# Altium footprint library SAMTEC_EHF.PCBLIB: 3 footprints
Each footprint in its own frame and in the unit in brackets; x right, y up, seen from the top. Pads: shape width x height; smd on the part's side, far side on the other; paste and mask are expansions set on the pad; w line width, h text height; cw(c..) or ccw(c..) is an arc to the next point about the centre after c.
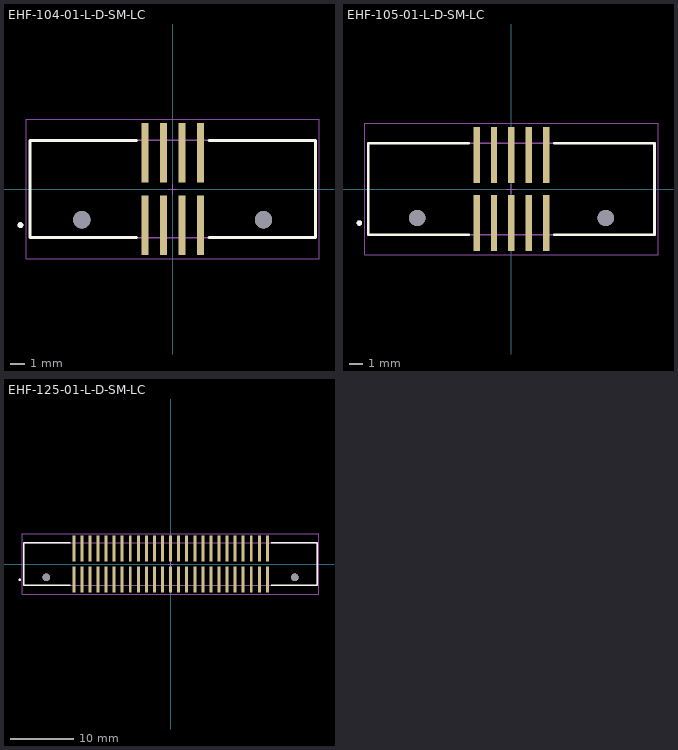
[diagram p0: the footprints below, top view; thin cyan lines are the x and y axes]

## EHF-104-01-L-D-SM-LC [mm]
pads (10):
  rect 0.47x4.09 smd: 01(-1.905,-2.475) 02(-1.905,2.475) 03(-0.635,-2.475) 04(-0.635,2.475) 05(0.635,-2.475) 06(0.635,2.475) 07(1.905,-2.475) 08(1.905,2.475)
  round 1.19 hole 1.19 unplated: ""(-6.225,-2.11) ""(6.225,-2.11)
Top Overlay:
  circle w0.2: c-10.43,-2.475 r0.1
  lines w0.2: -2.49,-3.335 -9.78,-3.335 -9.78,3.335 -2.49,3.335 ; 2.49,-3.335 9.78,-3.335 9.78,3.335 2.49,3.335
Top Assembly:
  circle w0.2: c-10.43,-2.475 r0.1
  lines w0.1: -9.78,-3.335 -9.78,3.335 ; -9.78,-3.335 9.78,-3.335 ; -9.78,-3.335 -9.78,3.335 ; -9.78,3.335 9.78,3.335 ; -9.78,3.335 9.78,3.335 ; 9.78,-3.335 9.78,3.335 ; 9.78,-3.335 9.78,3.335
Top Courtyard:
  lines w0.05: -10.03,-4.77 10.03,-4.77 10.03,4.77 -10.03,4.77 -10.03,-4.77
Top Designator:
  text ".Designator" at -0.4,-0.4 h0.76
Top Component Center:
  lines w0.05: -0.35,0 0.35,0 ; 0,-0.35 0,0.35
3D body "EHF-104-01-L-D-SM-LC.stp": height 11.3, standoff -1.52, extent -9.779,-3.759 9.779,3.759

## EHF-105-01-L-D-SM-LC [mm]
pads (12):
  rect 0.47x4.09 smd: 01(-2.54,-2.475) 02(-2.54,2.475) 03(-1.27,-2.475) 04(-1.27,2.475) 05(0,-2.475) 06(0,2.475) 07(1.27,-2.475) 08(1.27,2.475) 09(2.54,-2.475) 10(2.54,2.475)
  round 1.19 hole 1.19 unplated: ""(-6.86,-2.11) ""(6.86,-2.11)
Top Overlay:
  circle w0.2: c-11.065,-2.475 r0.1
  lines w0.2: -3.125,-3.335 -10.415,-3.335 -10.415,3.335 -3.125,3.335 ; 3.125,-3.335 10.415,-3.335 10.415,3.335 3.125,3.335
Top Assembly:
  circle w0.2: c-11.065,-2.475 r0.1
  lines w0.1: -10.415,-3.335 -10.415,3.335 ; -10.415,-3.335 10.415,-3.335 ; -10.415,-3.335 -10.415,3.335 ; -10.415,3.335 10.415,3.335 ; -10.415,3.335 10.415,3.335 ; 10.415,-3.335 10.415,3.335 ; 10.415,-3.335 10.415,3.335
Top Courtyard:
  lines w0.05: -10.665,-4.77 10.665,-4.77 10.665,4.77 -10.665,4.77 -10.665,-4.77
Top Designator:
  text ".Designator" at -0.4,-0.3 h0.76
Top Component Center:
  lines w0.05: -0.35,0 0.35,0 ; 0,-0.35 0,0.35
3D body "EHF-105-01-L-D-SM-LC.stp": height 11.3, standoff -1.52, extent -10.414,-3.759 10.414,3.759

## EHF-125-01-L-D-SM-LC [mm]
pads (52):
  rect 0.47x4.09 smd: 01(-15.24,-2.475) 02(-15.24,2.475) 03(-13.97,-2.475) 04(-13.97,2.475) 05(-12.7,-2.475) 06(-12.7,2.475) 07(-11.43,-2.475) 08(-11.43,2.475) 09(-10.16,-2.475) 10(-10.16,2.475) 11(-8.89,-2.475) 12(-8.89,2.475) 13(-7.62,-2.475) 14(-7.62,2.475) 15(-6.35,-2.475) 16(-6.35,2.475) 17(-5.08,-2.475) 18(-5.08,2.475) 19(-3.81,-2.475) 20(-3.81,2.475) 21(-2.54,-2.475) 22(-2.54,2.475) 23(-1.27,-2.475) 24(-1.27,2.475) 25(0,-2.475) 26(0,2.475) 27(1.27,-2.475) 28(1.27,2.475) 29(2.54,-2.475) 30(2.54,2.475) 31(3.81,-2.475) 32(3.81,2.475) 33(5.08,-2.475) 34(5.08,2.475) 35(6.35,-2.475) 36(6.35,2.475) 37(7.62,-2.475) 38(7.62,2.475) 39(8.89,-2.475) 40(8.89,2.475) 41(10.16,-2.475) 42(10.16,2.475) 43(11.43,-2.475) 44(11.43,2.475) 45(12.7,-2.475) 46(12.7,2.475) 47(13.97,-2.475) 48(13.97,2.475) 49(15.24,-2.475) 50(15.24,2.475)
  round 1.19 hole 1.19 unplated: ""(-19.56,-2.11) ""(19.56,-2.11)
Top Overlay:
  circle w0.2: c-23.765,-2.475 r0.1
  lines w0.2: -15.825,-3.335 -23.115,-3.335 -23.115,3.335 -15.825,3.335 ; 15.825,-3.335 23.115,-3.335 23.115,3.335 15.825,3.335
Top Assembly:
  circle w0.2: c-23.765,-2.475 r0.1
  lines w0.1: -23.115,-3.335 -23.115,3.335 ; -23.115,-3.335 23.115,-3.335 ; -23.115,-3.335 -23.115,3.335 ; -23.115,3.335 23.115,3.335 ; -23.115,3.335 23.115,3.335 ; 23.115,-3.335 23.115,3.335 ; 23.115,-3.335 23.115,3.335
Top Courtyard:
  lines w0.05: -23.365,-4.77 23.365,-4.77 23.365,4.77 -23.365,4.77 -23.365,-4.77
Top Designator:
  text ".Designator" at -0.6,-0.2 h0.76
Top Component Center:
  lines w0.05: -0.35,0 0.35,0 ; 0,-0.35 0,0.35
3D body "EHF-125-01-L-D-SM-LC.stp": height 11.3, standoff -1.52, extent -23.114,-3.759 23.114,3.759